# EAGLE library part DRV8871 (library eDNA)
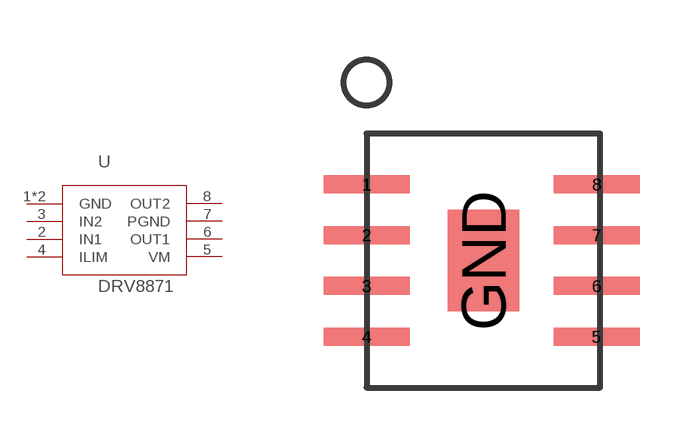
[diagram p2: symbol with the pads of SOP8; footprint SOP8]

Designator prefix -

## DRV8871  [SOP8]
1  GND
2  IN1
3  IN2
4  ILIM
5  VM
6  OUT1
7  PGND
8  OUT2
GND  GND

## Footprint SOP8 (pad centres in mm)
smd 2.15 x 0.45: 1 -2.54,1.27; 2 -2.54,0; 3 -2.54,-1.27; 4 -2.54,-2.54; 5 3.21,-2.54; 6 3.21,-1.27; 7 3.21,0; 8 3.21,1.27
smd 1.79 x 2.541: GND 0.381,-0.635